# Altium footprint library TVGP01G73BB.PcbLib: 1 footprints
Each footprint in its own frame and in the unit in brackets; x right, y up, seen from the top. Pads: shape width x height; smd on the part's side, far side on the other; paste and mask are expansions set on the pad; w line width, h text height; cw(c..) or ccw(c..) is an arc to the next point about the centre after c.
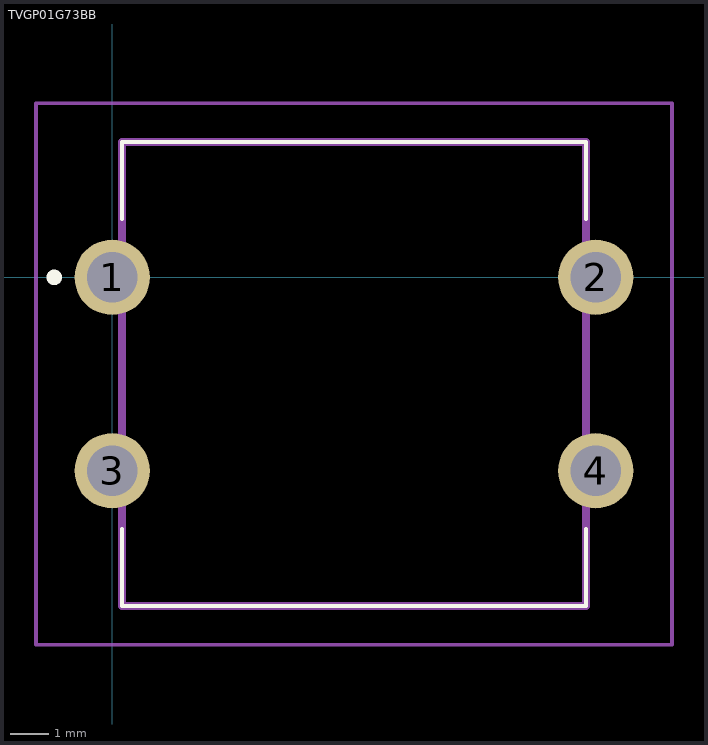
[diagram p0: the footprint, top view; thin cyan lines are the x and y axes]

## TVGP01G73BB [mm]
pads (4):
  round 1.95 hole 1.3: 1(0,0) 2(12.5,0) 3(0,-5) 4(12.5,-5)
Top Overlay:
  lines w0.1: 0.25,-6.5 0.25,-8.5 12.25,-8.5 12.25,-6.5 ; 0.25,1.5 0.25,3.5 12.25,3.5 12.25,1.5
  lines w0.2: -1.5,-0.1 cw(c-1.5,0) -1.5,0.1 ; -1.5,-0.1 -1.5,-0.1 ; -1.5,-0.1 ccw(c-1.5,0) -1.5,0.1 ; -1.5,0.1 -1.5,0.1
Mechanical 15:
  lines w0.2: 0.25,-8.5 12.25,-8.5 12.25,3.5 0.25,3.5 0.25,-8.5
Mechanical 20:
  lines w0.1: -1.975,-9.5 14.475,-9.5 14.475,4.5 -1.975,4.5 -1.975,-9.5